# Altium footprint library FS8205A.PcbLib: 1 footprints
Each footprint in its own frame and in the unit in brackets; x right, y up, seen from the top. Pads: shape width x height; smd on the part's side, far side on the other; paste and mask are expansions set on the pad; w line width, h text height; cw(c..) or ccw(c..) is an arc to the next point about the centre after c.
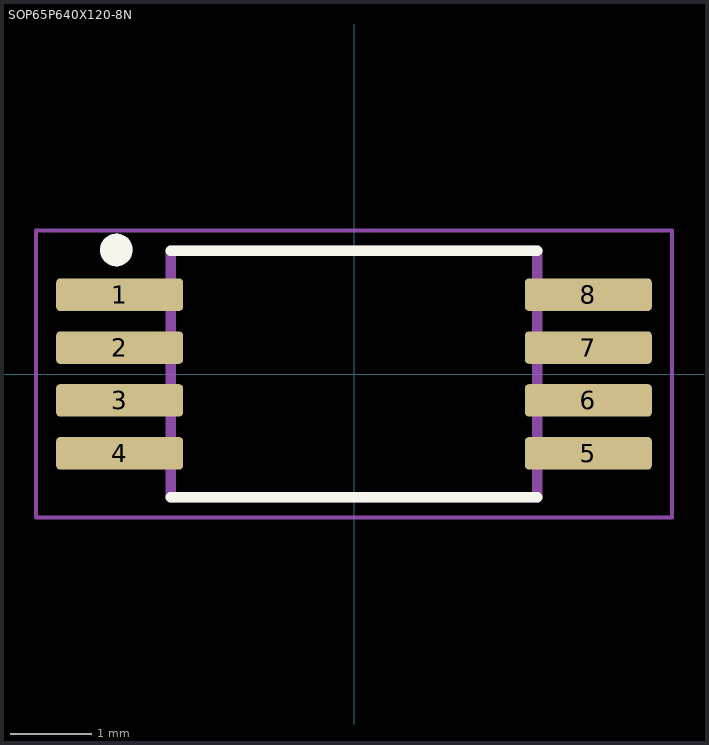
[diagram p0: the footprint, top view; thin cyan lines are the x and y axes]

## SOP65P640X120-8N [mm]
pads (8):
  rrect25% 1.56x0.4 smd: 1(-2.88,0.975) 2(-2.88,0.325) 3(-2.88,-0.325) 4(-2.88,-0.975) 5(2.88,-0.975) 6(2.88,-0.325) 7(2.88,0.325) 8(2.88,0.975)
Top Overlay:
  circle w0.2: c-2.921,1.524 r0.1
  lines w0.127: -2.25,-1.515 2.25,-1.515 ; -2.25,1.515 2.25,1.515
Mechanical 13:
  circle w0.2: c-2.921,1.524 r0.1
  lines w0.127: -2.25,-1.515 2.25,-1.515 2.25,1.515 -2.25,1.515 -2.25,-1.515
Mechanical 15:
  lines w0.05: -3.91,-1.765 3.91,-1.765 3.91,1.765 -3.91,1.765 -3.91,-1.765
3D body "FS8205A--3DModel-STEP-56544.STEP": height 1.2, standoff 0, extent -3.2,-1.524 3.2,1.406